# Altium integrated library AD5162BRMZ10.IntLib: 1 symbol
Pins are listed as number, name and electrical type; pins without a type are passive.

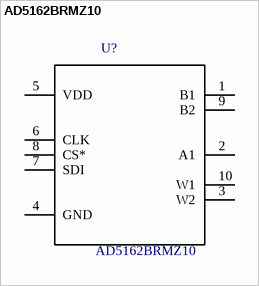
[diagram p0: symbol AD5162BRMZ10]

## AD5162BRMZ10
designator U?
/ Digital Potentiometer, Volatile, 10kohm, 256, Dual, Msop-10 /; MF: Analog Devices; SnapEDA_Link: https://www.snapeda.com/parts/AD5162BRMZ10/Analog%20Devices%20Inc./view-part/?ref=snap; Availability: Unavailable; MP: AD5162BRMZ10; Price: None; Package: MSOP-10 Analog Devices; Value: *
footprint *SOP50P490X110-10N
pins: 1 B1, 2 A1, 3 W2, 4 GND, 5 VDD (power), 6 CLK, 7 SDI, 8 CS*, 9 B2, 10 W1